# Altium footprint library 6_to_14_Pin.PcbLib: 54 footprints (part 4 of 4)
Each footprint in its own frame and in the unit in brackets; x right, y up, seen from the top. Pads: shape width x height; smd on the part's side, far side on the other; paste and mask are expansions set on the pad; w line width, h text height; cw(c..) or ccw(c..) is an arc to the next point about the centre after c.
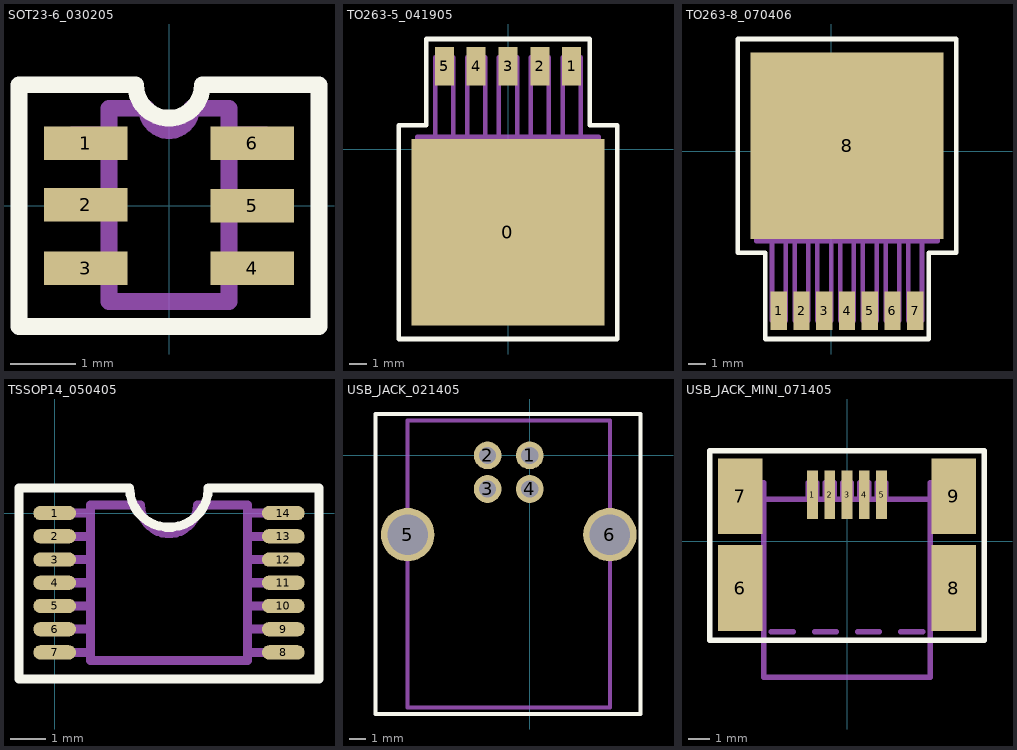
[diagram p3: the footprints below, top view; thin cyan lines are the x and y axes]

## SOT23-6_030205 [mil] "SMT"
height 50
pads (6):
  rect 50x20 smd mask+1.5: 1(-50,37.5) 2(-50,0.5) 3(-50,-37.5) 4(50,-37.5) 5(50,0) 6(50,37.5)
Top Overlay:
  lines w10: -90,-72.5 90,-72.5 90,72.5 20,72.5 cw(c0,72.5) -20,72.5 -90,72.5 -90,-37.5 -90,-72.5
Assembly Outline:
  lines w10: -36,-41.5 -58,-41.5 -58,-33.5 -38,-33.5 -36,-31.5 ; -36,-3.5 -58,-3.5 -58,4.5 -36,4.5 ; -36,34.5 -58,34.5 -58,42.5 -36,42.5 ; 36,-41.5 58,-41.5 58,-33.5 36,-33.5 ; 36,-3.5 58,-3.5 58,4.5 36,4.5 ; 36,34.5 58,34.5 58,42.5 36,42.5 ; -36,-57.5 -36,58.5 -13.5,58.5 ccw(c0,58.5) 13.5,58.5 36,58.5 36,-57.5 -36,-57.5
Assembly Designator:
  text ".Designator" at -20,45 h40
Assembly Comment:
  text ".Comment" at 84,69 h40

## TO263-5_041905 [mil] "SMT"
height 181.1
pads (6):
  rect 425x410 smd: 0(0,-182.5)
  rect 42x85 smd: 1(140,182.5) 2(70,182.5) 3(0,182.5) 4(-70,182.5) 5(-140,182.5)
Top Overlay:
  lines w10: -240,-417.5 0,-417.5 240,-417.5 240,52.5 180,52.5 180,242.5 -180,242.5 -180,52.5 -240,52.5 -240,-417.5
Assembly Outline:
  lines w10: -160,27.5 -160,202.5 ; -140,27.5 -70,27.5 0,27.5 70,27.5 140,27.5 ; -120,27.5 -120,202.5 ; -90,27.5 -90,202.5 ; -50,27.5 -50,202.5 ; -20,27.5 -20,202.5 ; 20,27.5 20,202.5 ; 50,27.5 50,202.5 ; 90,27.5 90,202.5 ; 120,27.5 120,202.5 ; 160,27.5 160,202.5 ; -200,-312.5 200,-312.5 ; -200,-312.5 -130,-362.5 0,-362.5 130,-362.5 200,-312.5 ; -200,-312.5 -200,27.5 200,27.5 200,-312.5 ; -160,202.5 -140,202.5 -120,202.5 ; -160,202.5 -120,202.5 ; -90,202.5 -70,202.5 -50,202.5 ; -90,202.5 -50,202.5 ; -20,202.5 0,202.5 20,202.5 ; -20,202.5 20,202.5 ; 50,202.5 70,202.5 90,202.5 ; 50,202.5 90,202.5 ; 120,202.5 140,202.5 160,202.5 ; 120,202.5 160,202.5
Assembly Designator:
  text ".Designator" at -52,-204.5 h40
Assembly Comment:
  text ".Comment" at -76,-100.5 h40

## TO263-8_070406 [mil] "SMT"
height 181.1
pads (8):
  rect 36x85 smd mask+1.5: 1(-115,-350) 2(-65,-350) 3(-15,-350) 4(35,-350) 5(85,-350) 6(135,-350) 7(185,-350)
  rect 425x410 smd: 8(35,12.5)
Top Overlay:
  lines w10: -205,-222.5 -145,-222.5 -145,-412.5 215,-412.5 215,-222.5 275,-222.5 275,247.5 35,247.5 -205,247.5 -205,-222.5
Assembly Outline:
  lines w10: -130,-197.5 -130,-372.5 -115,-372.5 -100,-372.5 -100,-197.5 ; -80,-197.5 -80,-372.5 -65,-372.5 -50,-372.5 -50,-197.5 ; -30,-197.5 -30,-372.5 -15,-372.5 0,-372.5 0,-197.5 ; -15,-197.5 35,-197.5 ; 20,-197.5 20,-372.5 35,-372.5 50,-372.5 50,-197.5 ; 70,-197.5 70,-372.5 85,-372.5 100,-372.5 100,-197.5 ; 120,-197.5 120,-372.5 135,-372.5 150,-372.5 150,-197.5 ; 170,-197.5 170,-372.5 185,-372.5 200,-372.5 200,-197.5 ; -165,142.5 -95,192.5 35,192.5 165,192.5 235,142.5 ; -165,142.5 235,142.5 ; -165,142.5 -165,-197.5 235,-197.5 235,142.5
Assembly Designator:
  text ".Designator" at 0,-45 h40
Assembly Comment:
  text ".Comment" at -125,-135 h40

## TSSOP14_050405 [mm] "SMT"
height 1.27
pads (14):
  oval 1.2x0.4 smd mask+0.038: 1(0,0) 2(0,-0.65) 3(0,-1.3) 4(0,-1.95) 5(0,-2.6) 6(0,-3.25) 7(0,-3.9) 8(6.4,-3.9) 9(6.4,-3.25) 10(6.4,-2.6) 11(6.4,-1.95) 12(6.4,-1.3) 13(6.4,-0.65) 14(6.4,0)
Top Overlay:
  lines w0.254: -1,-4.65 7.4,-4.65 7.4,0.7 4.3,0.7 cw(c3.2,0.7) 2.1,0.7 -1,0.7 -1,-4.65
Assembly Outline:
  lines w0.254: 0,-3.9 1,-3.9 ; 0,-3.25 1,-3.25 ; 0,-2.6 1,-2.6 ; 0,-1.95 1,-1.95 ; 0,-1.3 1,-1.3 ; 0,-0.65 1,-0.65 ; 0,0 1,0 ; 3.2,-4.125 5.4,-4.125 ; 4.8,-4.125 1,-4.125 ; 5.4,-3.9 6.4,-3.9 ; 5.4,-3.25 6.4,-3.25 ; 5.4,-2.6 6.4,-2.6 ; 5.4,-1.95 6.4,-1.95 ; 5.4,-1.3 6.4,-1.3 ; 5.4,-0.65 6.4,-0.65 ; 5.4,0 6.4,0 ; 1,-4.125 5.4,-4.125 ; 1,-4.125 1,-2.275 1,0.225 2.4,0.225 ccw(c3.2,0.225) 4,0.225 5.4,0.225 5.4,-4.125
Assembly Designator:
  text ".Designator" at 1.956,-2.591 h1.02
Assembly Comment:
  text ".Comment" at -0.584,-5.969 h1.02

## USB_JACK_021405 [mil] "TH"
height 450
pads (6):
  round 65 hole 40: 1(0,0) 2(-98.43,0) 3(-98.43,-78.74) 4(0,-78.74)
  round 125 hole 95: 5(-285.83,-185.43) 6(187.79,-185.43)
Top Overlay:
  lines w10: -360.84,-605.43 -360.84,44.57 -360.84,96.77 259.16,96.77 259.16,44.57 259.16,-605.43 44.16,-605.43 -300.84,-605.43 -360.84,-605.43
Assembly Outline:
  lines w10: -285.84,-590.43 -285.84,27.57 -285.84,81.77 188.16,81.77 188.16,27.57 188.16,-590.43 -285.84,-590.43
Assembly Designator:
  text ".Designator" at -127,-229 h40
Assembly Comment:
  text ".Comment" at 80,18 h40

## USB_JACK_MINI_071405 [mm] "SM"
height 3.95
pads (9):
  rect 0.5x2.25 smd mask+0.051: 1(-1.6,2.163) 2(-0.8,2.163) 3(0,2.163) 4(0.8,2.163) 5(1.6,2.163)
  rect 2.05x4 smd mask+0.051: 6(-4.95,-2.163) 8(4.95,-2.163)
  rect 2.05x3.5 smd mask+0.051: 7(-4.95,2.087) 9(4.95,2.087)
Top Overlay:
  lines w0.254: -6.35,-4.572 -6.35,0 -6.35,4.191 0,4.191 6.35,4.191 6.35,0 6.35,-4.572 0,-4.572 -6.35,-4.572
Assembly Outline:
  lines w0.254: -4.95,-2.287 -4.95,-3.287 ; -4.45,-1.287 -4.95,-1.287 ; -3.85,-3.287 -4.95,-3.287 ; -3.85,-1.287 -4.95,-1.287 ; -3.85,1.213 -4.95,1.213 -4.95,2.713 -3.85,2.713 ; -3.5,-4.187 -2.5,-4.187 ; -1.6,1.963 -1.8,1.963 -1.8,2.713 -1.6,2.713 -1.4,2.713 -1.4,1.963 ; -1.5,-4.187 -0.5,-4.187 ; -0.8,1.963 -1,1.963 -1,2.713 -0.8,2.713 -0.6,2.713 -0.6,1.963 ; 0,-6.287 -3.85,-6.287 ; 0,1.963 -0.2,1.963 -0.2,2.713 0,2.713 0.2,2.713 0.2,1.963 ; 0.5,-4.187 1.5,-4.187 ; 0.8,1.963 0.6,1.963 0.6,2.713 0.8,2.713 1,2.713 1,1.963 ; 1.6,1.963 1.4,1.963 1.4,2.713 1.6,2.713 1.8,2.713 1.8,1.963 ; 2.5,-4.187 3.5,-4.187 ; 3.85,-4.287 3.85,-6.287 ; 3.85,-1.287 4.95,-1.287 ; 3.85,1.213 4.95,1.213 ; 4.45,-1.287 4.95,-1.287 ; 4.95,-2.287 4.95,-3.287 ; 4.95,1.963 4.95,1.213 ; -4.95,-3.287 -4.95,-1.287 ; -3.85,-6.287 -3.85,2.713 ; -3.85,-6.287 3.85,-6.287 ; -3.85,2.713 -3.85,1.963 1.975,1.963 3.85,1.963 3.85,2.713 ; 3.85,-6.287 3.85,-3.287 4.95,-3.287 ; 3.85,-6.287 3.85,2.713 ; 3.85,2.713 4.95,2.713 4.95,1.213 ; 4.95,-3.287 4.95,-1.287
  text "EDGE" at -1.75,-3.812 h1.02
Assembly Designator:
  text ".Designator" at -1,-1.7 h1.02
Assembly Comment:
  text ".Comment" at -3.575,3.65 h1.02